# Altium schematic symbol library Microchip MCP6001UT Op Amp.SchLib: 1 symbol
Pins are listed as number, name and electrical type; pins without a type are passive.

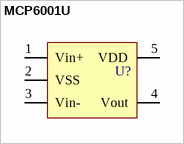
[diagram p0: symbol MCP6001U]

## MCP6001U
designator U?  (value not drawn)
footprint MCP6001UT
pins: 1 Vin+, 2 VSS, 3 Vin-, 4 Vout, 5 VDD